# Altium schematic symbol library DSO.SchLib: 193 symbols (part 1 of 2)
Pins are listed as number, name and electrical type; pins without a type are passive.

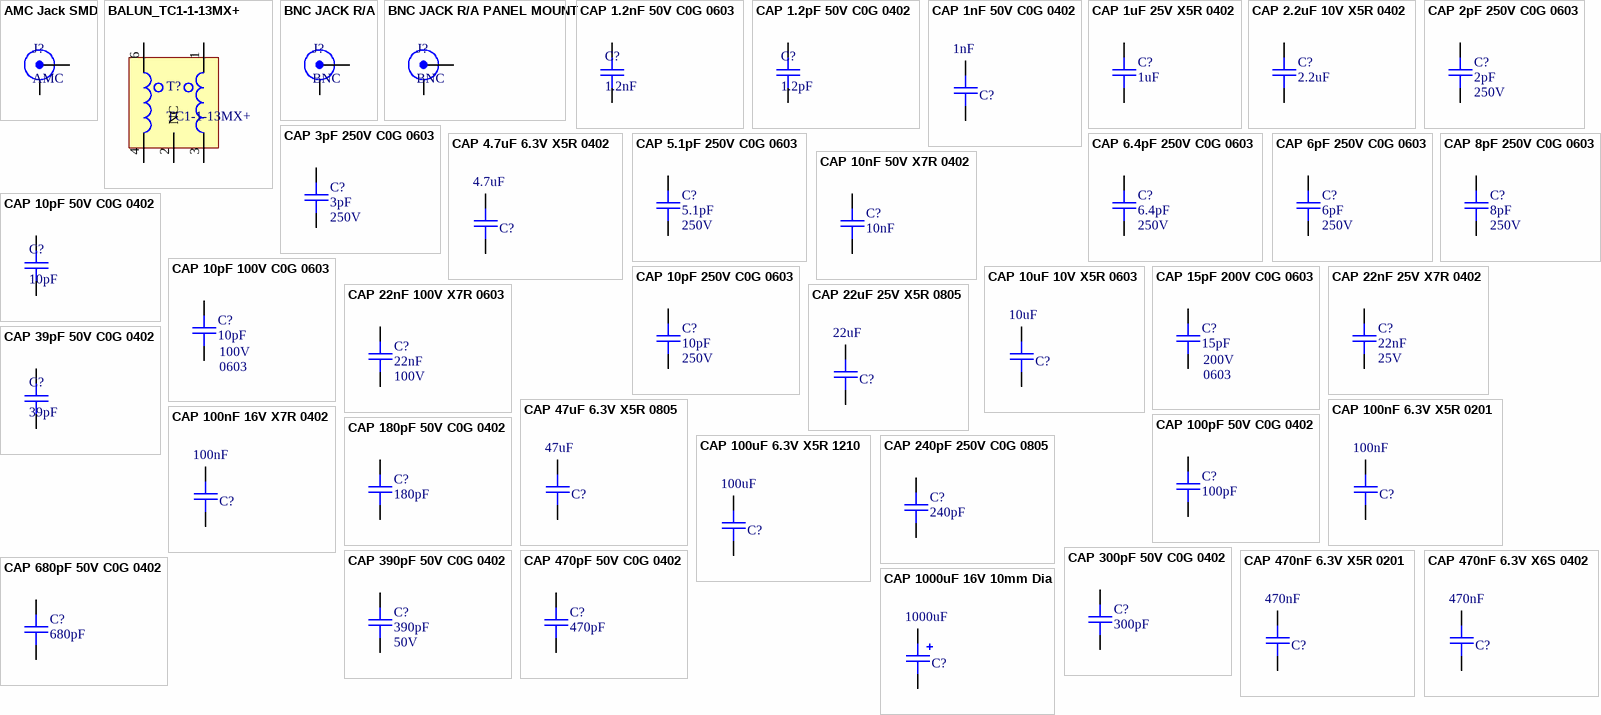
[diagram p0: symbols AMC Jack SMD to CAP 1000uF 16V 10mm Dia]

## AMC Jack SMD
designator J?, comment AMC
Supplier 1: Digi-Key; Supplier Part Number 1: ARF1579CT-ND
footprint AMP_A-1JB
pins: 1 Signal, 2 SHIELD

## BALUN_TC1-1-13MX+
designator T?, comment TC1-1-13MX+
Supplier 1: Digi-Key; Supplier Part Number 1: 3157-TC1-1-13MX+CT-ND
footprint MINICIRCUITS_TC1-1-13MX+
pins: 1, 2 NC, 3, 4, 6

## BNC JACK R/A
designator J?, comment BNC
Manufacturer: Molex; Manufacturer Part Number: 73100-0105; Supplier 1: Digi-Key; Supplier Part Number 1: WM5524-ND
footprint MOL_0731000105 (Molex BNC Jack, TH Right Angle)
pins: 1 Signal, 2 SHIELD

## BNC JACK R/A PANEL MOUNT
designator J?, comment BNC
Manufacturer: Molex; Manufacturer Part Number: 73138-5033; Supplier 1: Digi-Key; Supplier Part Number 1: WM5515-ND
footprint MOL_0731385033
pins: 1 Signal, 2 SHIELD

## CAP 1.2nF 50V C0G 0603
designator C?, comment 1.2nF
Manufacturer: Murata; Manufacturer Part Number: GRM1885C1H122JA01D; Voltage Rating: 50V; Temperature Coefficient: C0G; Package: 0603; Value: 1.2nF; Supplier 1: Digi-Key; Supplier Part Number 1: 490-1453-1-ND
footprint GEN_C_0603 (Chip Capacitor, 2-Leads, Body 1.60x0.80mm, IPC Medium Density)
pins: 1, 2

## CAP 1.2pF 50V C0G 0402
designator C?, comment 1.2pF
Manufacturer: Yageo; Manufacturer Part Number: CC0402BRNPO9BN1R2; Temperature Coefficient: C0G; Voltage Rating: 50V; Package: 0402; Value: 1.2pF; Supplier 1: Digi-Key; Supplier Part Number 1: 311-1615-1-ND
footprint GEN_C_0402 (Chip Capacitor, 0402, IPC Medium Density)
pins: 1, 2

## CAP 1nF 50V C0G 0402
designator C?, comment 1nF
Manufacturer: Murata; Manufacturer Part Number: GRM1555C1H102FA01D; Voltage Rating: 50V; Package: 0402; Supplier 1: Digi-Key; Supplier Part Number 1: 490-6189-1-ND; Value: 1nF
footprint GEN_C_0402 (Chip Capacitor, 0402, IPC Medium Density)
pins: 1, 2

## CAP 1uF 25V X5R 0402
designator C?, comment 1uF
Manufacturer: Murata; Manufacturer Part Number: GRM155R61E105KA12D; Voltage Rating: 25V; Package: 0402; Supplier 1: Digi-Key; Supplier Part Number 1: 490-10017-1-ND; Value: 1uF
footprint GEN_C_0402 (Chip Capacitor, 0402, IPC Medium Density)
pins: 1, 2

## CAP 2.2uF 10V X5R 0402
designator C?, comment 2.2uF
Manufacturer: Taiyo Yuden; Manufacturer Part Number: LMK105BJ225MV-F; Voltage Rating: 10V; Package: 0402; Supplier 1: Digi-Key; Supplier Part Number 1: 587-3153-1-ND; Value: 2.2uF
footprint GEN_C_0402 (Chip Capacitor, 0402, IPC Medium Density)
pins: 1, 2

## CAP 2pF 250V C0G 0603
designator C?, comment 2pF  Voltage Rating: 250V
Manufacturer: KEMET; Manufacturer Part Number: CBR06C309BAGAC; Package: 0603; Value: 2pF; Supplier 1: Mouser; Supplier Part Number 1: 80-CBR06C209BAG
footprint GEN_C_0603 (Chip Capacitor, 2-Leads, Body 1.60x0.80mm, IPC Medium Density)
pins: 1, 2

## CAP 3pF 250V C0G 0603
designator C?, comment 3pF  Voltage Rating: 250V
Manufacturer: KEMET; Manufacturer Part Number: CBR06C309BAGAC; Package: 0603; Supplier 1: Digi-Key; Supplier Part Number 1: 399-8820-1-ND; Value: 3pF
footprint GEN_C_0603 (Chip Capacitor, 2-Leads, Body 1.60x0.80mm, IPC Medium Density)
pins: 1, 2

## CAP 4.7uF 6.3V X5R 0402
designator C?, comment 4.7uF
Manufacturer: Murata; House Part Number: C-4.7uF-0402-002; Manufacturer Part Number: GRM155R60J475ME47D; Voltage Rating: 6.3V; Package: 0402; Value: 4.7uF; Supplier 1: Digi-Key; Supplier Part Number 1: 490-5915-1-ND
footprint GEN_C_0402 (Chip Capacitor, 0402, IPC Medium Density)
pins: 1, 2

## CAP 5.1pF 250V C0G 0603
designator C?, comment 5.1pF  Voltage Rating: 250V
Manufacturer: KEMET; Manufacturer Part Number: CBR06C519BAGAC; Package: 0603; Value: 5.1pF; Supplier 1: Mouser; Supplier Part Number 1: 80-CBR06C519BAGAC
footprint GEN_C_0603 (Chip Capacitor, 2-Leads, Body 1.60x0.80mm, IPC Medium Density)
pins: 1, 2

## CAP 6.4pF 250V C0G 0603
designator C?, comment 6.4pF  Voltage Rating: 250V
Manufacturer: KEMET; Manufacturer Part Number: CBR06C609BAGAC; Package: 0603; Value: 6.4pF; Supplier 1: Mouser; Supplier Part Number 1: 80-CBR06C649BAGAC
footprint GEN_C_0603 (Chip Capacitor, 2-Leads, Body 1.60x0.80mm, IPC Medium Density)
pins: 1, 2

## CAP 6pF 250V C0G 0603
designator C?, comment 6pF  Voltage Rating: 250V
Manufacturer: KEMET; Manufacturer Part Number: CBR06C609BAGAC; Supplier 1: Digi-Key; Supplier Part Number 1: 399-8734-1-ND; Package: 0603; Value: 6pF
footprint GEN_C_0603 (Chip Capacitor, 2-Leads, Body 1.60x0.80mm, IPC Medium Density)
pins: 1, 2

## CAP 8pF 250V C0G 0603
designator C?, comment 8pF  Voltage Rating: 250V
Manufacturer: KEMET; Manufacturer Part Number: CBR06C809BAGAC; Package: 0603; Supplier 1: Digi-Key; Supplier Part Number 1: 399-8740-1-ND; Value: 8pF
footprint GEN_C_0603 (Chip Capacitor, 2-Leads, Body 1.60x0.80mm, IPC Medium Density)
pins: 1, 2

## CAP 10nF 50V X7R 0402
designator C?, comment 10nF
Manufacturer: Murata; House Part Number: C-10nF-0402-002; Manufacturer Part Number: GRM155R71H103KA88J; Voltage Rating: 50V; Package: 0402; Value: 10nF; Supplier 1: Digi-Key; Supplier Part Number 1: 490-6351-1-ND
footprint GEN_C_0402 (Chip Capacitor, 0402, IPC Medium Density)
pins: 1, 2

## CAP 10pF 50V C0G 0402
designator C?, comment 10pF
Manufacturer: Samsung; Manufacturer Part Number: CL05C100JB5NNNC; Temperature Coefficient: C0G; Voltage Rating: 50V; Package: 0402; Value: 10pF; Supplier 1: Digi-Key; Supplier Part Number 1: 1276-1139-1-ND
footprint GEN_C_0402 (Chip Capacitor, 0402, IPC Medium Density)
pins: 1, 2

## CAP 10pF 100V C0G 0603
designator C?, comment 10pF  Package: 0603  Voltage Rating: 100V
Manufacturer: Kyocera AVX; Manufacturer Part Number: 06031A100FAT2A; Value: 10pF; Supplier 1: Digi-Key; Supplier Part Number 1: 478-5769-1-ND
footprint GEN_C_0603 (Chip Capacitor, 2-Leads, Body 1.60x0.80mm, IPC Medium Density)
pins: 1, 2

## CAP 10pF 250V C0G 0603
designator C?, comment 10pF  Voltage Rating: 250V
Manufacturer: KEMET; Manufacturer Part Number: CBR06C100FAGAC; Package: 0603; Value: 10pF; Supplier 1: Digi-Key; Supplier Part Number 1: 399-13311-1-ND
footprint GEN_C_0603 (Chip Capacitor, 2-Leads, Body 1.60x0.80mm, IPC Medium Density)
pins: 1, 2

## CAP 10uF 10V X5R 0603
designator C?, comment 10uF
Manufacturer: Murata; House Part Number: C-10uF-0603-002; Manufacturer Part Number: GRM188R61A106ME69D; Voltage Rating: 10V; Package: 0402; Value: 10uF; Supplier 1: Digi-Key; Supplier Part Number 1: 490-10475-1-ND
footprint GEN_C_0603 (Chip Capacitor, 2-Leads, Body 1.60x0.80mm, IPC Medium Density)
pins: 1, 2

## CAP 15pF 200V C0G 0603
designator C?, comment 15pF  Package: 0603  Voltage Rating: 200V
Manufacturer: Kyocera AVX; Manufacturer Part Number: 06032U150FAT2A; Supplier 1: Digi-Key; Supplier Part Number 1: 478-10254-1-ND; Value: 15pF
footprint GEN_C_0603 (Chip Capacitor, 2-Leads, Body 1.60x0.80mm, IPC Medium Density)
pins: 1, 2

## CAP 22nF 25V X7R 0402
designator C?, comment 22nF  Voltage Rating: 25V
Manufacturer: Murata; Manufacturer Part Number: GRM155R71E223JA61D; Package: 0402; Supplier 1: Digi-Key; Supplier Part Number 1: 490-10699-1-ND; Value: 22nF
footprint GEN_C_0402 (Chip Capacitor, 0402, IPC Medium Density)
pins: 1, 2

## CAP 22nF 100V X7R 0603
designator C?, comment 22nF  Voltage Rating: 100V
Manufacturer: Murata; Manufacturer Part Number: GCM188R72A223KA37D; Package: 0603; Supplier 1: Digi-Key; Supplier Part Number 1: 490-4782-1-ND; Value: 22nF
footprint GEN_C_0603 (Chip Capacitor, 2-Leads, Body 1.60x0.80mm, IPC Medium Density)
pins: 1, 2

## CAP 22uF 25V X5R 0805
designator C?, comment 22uF
Manufacturer: Murata; House Part Number: C-22uF-0805-002; Manufacturer Part Number: GRM21BR61E226ME44L; Voltage Rating: 25V; Package: 0805; Value: 22uF; Supplier 1: Digi-Key; Supplier Part Number 1: 490-10749-1-ND
footprint GEN_C_0805 (Chip Capacitor, 2-Leads, Body 2.00x1.25mm, IPC Medium Density)
pins: 1, 2

## CAP 39pF 50V C0G 0402
designator C?, comment 39pF
Manufacturer: KEMET; House Part Number: C-39pF-0402-002; Manufacturer Part Number: C0402C390J5GACTU; Temperature Coefficient: C0G; Voltage Rating: 50V; Package: 0402; Value: 39pF; Supplier 1: Digi-Key; Supplier Part Number 1: 399-C0402C390J5GAC7867CT-ND
footprint GEN_C_0402 (Chip Capacitor, 0402, IPC Medium Density)
pins: 1, 2

## CAP 47uF 6.3V X5R 0805
designator C?, comment 47uF
Manufacturer: Samsung; House Part Number: C-47uF-0805-002; Manufacturer Part Number: CL21A476MQYNNNE; Voltage Rating: 6.3V; Package: 0805; Value: 47uF; Supplier 1: Digi-Key; Supplier Part Number 1: 1276-1852-1-ND
footprint GEN_C_0805 (Chip Capacitor, 2-Leads, Body 2.00x1.25mm, IPC Medium Density)
pins: 1, 2

## CAP 100nF 6.3V X5R 0201
designator C?, comment 100nF
Manufacturer: Murata; House Part Number: C-100nF-0201-002; Manufacturer Part Number: GRM033R60J104KE19D; Voltage Rating: 6.3V; Package: 0201; Value: 100nF; Supplier 1: Digi-Key; Supplier Part Number 1: 490-3167-1-ND
footprint GEN_C_0201 (Chip Capacitor, 2-Leads, Body 0.60x0.30mm, IPC Medium Density)
pins: 1, 2

## CAP 100nF 16V X7R 0402
designator C?, comment 100nF
Manufacturer: Murata; House Part Number: C-100nF-0402-002; Manufacturer Part Number: GCM155R71C104KA55D; Voltage Rating: 16V; Package: 0402; Value: 100nF; Supplier 1: Digi-Key; Supplier Part Number 1: 490-4759-6-ND
footprint GEN_C_0402 (Chip Capacitor, 0402, IPC Medium Density)
pins: 1, 2

## CAP 100pF 50V C0G 0402
designator C?, comment 100pF
Manufacturer: Murata; Manufacturer Part Number: GCM1555C1H101FA16D; Temperature Coefficient: C0G; Voltage Rating: 50V; Package: 0402; Value: 100pF; Supplier 1: Digi-Key; Supplier Part Number 1: 490-14349-1-ND
footprint GEN_C_0402 (Chip Capacitor, 0402, IPC Medium Density)
pins: 1, 2

## CAP 100uF 6.3V X5R 1210
designator C?, comment 100uF
Manufacturer: Samsung; House Part Number: C-100uF-1210-002; Manufacturer Part Number: CL32A107MQVNNNE; Voltage Rating: 6.3V; Package: 1210; Value: 100uF; Supplier 1: Digi-Key; Supplier Part Number 1: 1276-1092-1-ND
footprint GEN_C_1210 (Chip Capacitor, 2-Leads, Body 3.20x2.50mm, IPC Medium Density)
pins: 1, 2

## CAP 180pF 50V C0G 0402
designator C?, comment 180pF
Manufacturer: Murata; Manufacturer Part Number: GCM1555C1H301FA16D; Temperature Coefficient: C0G; Voltage Rating: 50V; Package: 0402; Value: 180pF; Supplier 1: Digi-Key; Supplier Part Number 1: 490-16455-1-ND
footprint GEN_C_0402 (Chip Capacitor, 0402, IPC Medium Density)
pins: 1, 2

## CAP 240pF 250V C0G 0805
designator C?, comment 240pF
Manufacturer: Kyocera AVX; Manufacturer Part Number: 600F241FT250XT; Temperature Coefficient: C0G; Voltage Rating: 250V; Package: 0805; Value: 240pF; Supplier 1: Digi-Key; Supplier Part Number 1: 1284-1897-1-ND
footprint GEN_C_0805 (Chip Capacitor, 2-Leads, Body 2.00x1.25mm, IPC Medium Density)
pins: 1, 2

## CAP 300pF 50V C0G 0402
designator C?, comment 300pF
Manufacturer: Murata; Manufacturer Part Number: GCM1555C1H301FA16D; Temperature Coefficient: C0G; Voltage Rating: 50V; Package: 0402; Value: 300pF; Supplier 1: Digi-Key; Supplier Part Number 1: 490-GCM1555C1H301FA16DCT-ND
footprint GEN_C_0402 (Chip Capacitor, 0402, IPC Medium Density)
pins: 1, 2

## CAP 390pF 50V C0G 0402
designator C?, comment 390pF  Voltage Rating: 50V
Manufacturer: Murata; Manufacturer Part Number: GRM1555C1H391FA01D; Temperature Coefficient: C0G; Package: 0402; Supplier 1: Digi-Key; Supplier Part Number 1: 490-8202-1-ND; Value: 390pF
footprint GEN_C_0402 (Chip Capacitor, 0402, IPC Medium Density)
pins: 1, 2

## CAP 470nF 6.3V X5R 0201
designator C?, comment 470nF
Manufacturer: Murata; House Part Number: C-470nF-0201-002; Manufacturer Part Number: GRM033R60J474KE90D; Voltage Rating: 6.3V; Package: 0201; Value: 470nF; Supplier 1: Digi-Key; Supplier Part Number 1: 490-10409-1-ND
footprint GEN_C_0201 (Chip Capacitor, 2-Leads, Body 0.60x0.30mm, IPC Medium Density)
pins: 1, 2

## CAP 470nF 6.3V X6S 0402
designator C?, comment 470nF
Manufacturer: Murata; Manufacturer Part Number: GRM155C80J474KE19D; Voltage Rating: 6.3V; Package: 0402; Value: 470nF; Supplier 1: Digi-Key; Supplier Part Number 1: 490-6284-1-ND
footprint GEN_C_0402 (Chip Capacitor, 0402, IPC Medium Density)
pins: 1, 2

## CAP 470pF 50V C0G 0402
designator C?, comment 470pF
Manufacturer: Murata; Manufacturer Part Number: GRM1555C1H471FA01D; Temperature Coefficient: C0G; Voltage Rating: 50V; Package: 0402; Value: 470pF; Supplier 1: Digi-Key; Supplier Part Number 1: 490-8207-1-ND
footprint GEN_C_0402 (Chip Capacitor, 0402, IPC Medium Density)
pins: 1, 2

## CAP 680pF 50V C0G 0402
designator C?, comment 680pF
Manufacturer: Murata; Manufacturer Part Number: GCM1555C1H681FA16D; Temperature Coefficient: C0G; Voltage Rating: 50V; Package: 0402; Value: 680pF; Supplier 1: Digi-Key; Supplier Part Number 1: 490-16439-1-ND
footprint GEN_C_0402 (Chip Capacitor, 0402, IPC Medium Density)
pins: 1, 2

## CAP 1000uF 16V 10mm Dia
designator C?, comment 1000uF
Manufacturer: Panasonic; Manufacturer Part Number: 16SVPF1000MX; Voltage Rating: 16V; Package: 10mm; Value: 1000uF; Supplier 1: Digi-Key; Supplier Part Number 1: P124991CT-ND
footprint GEN_C_POLAR_10mm
pins: 1, 2

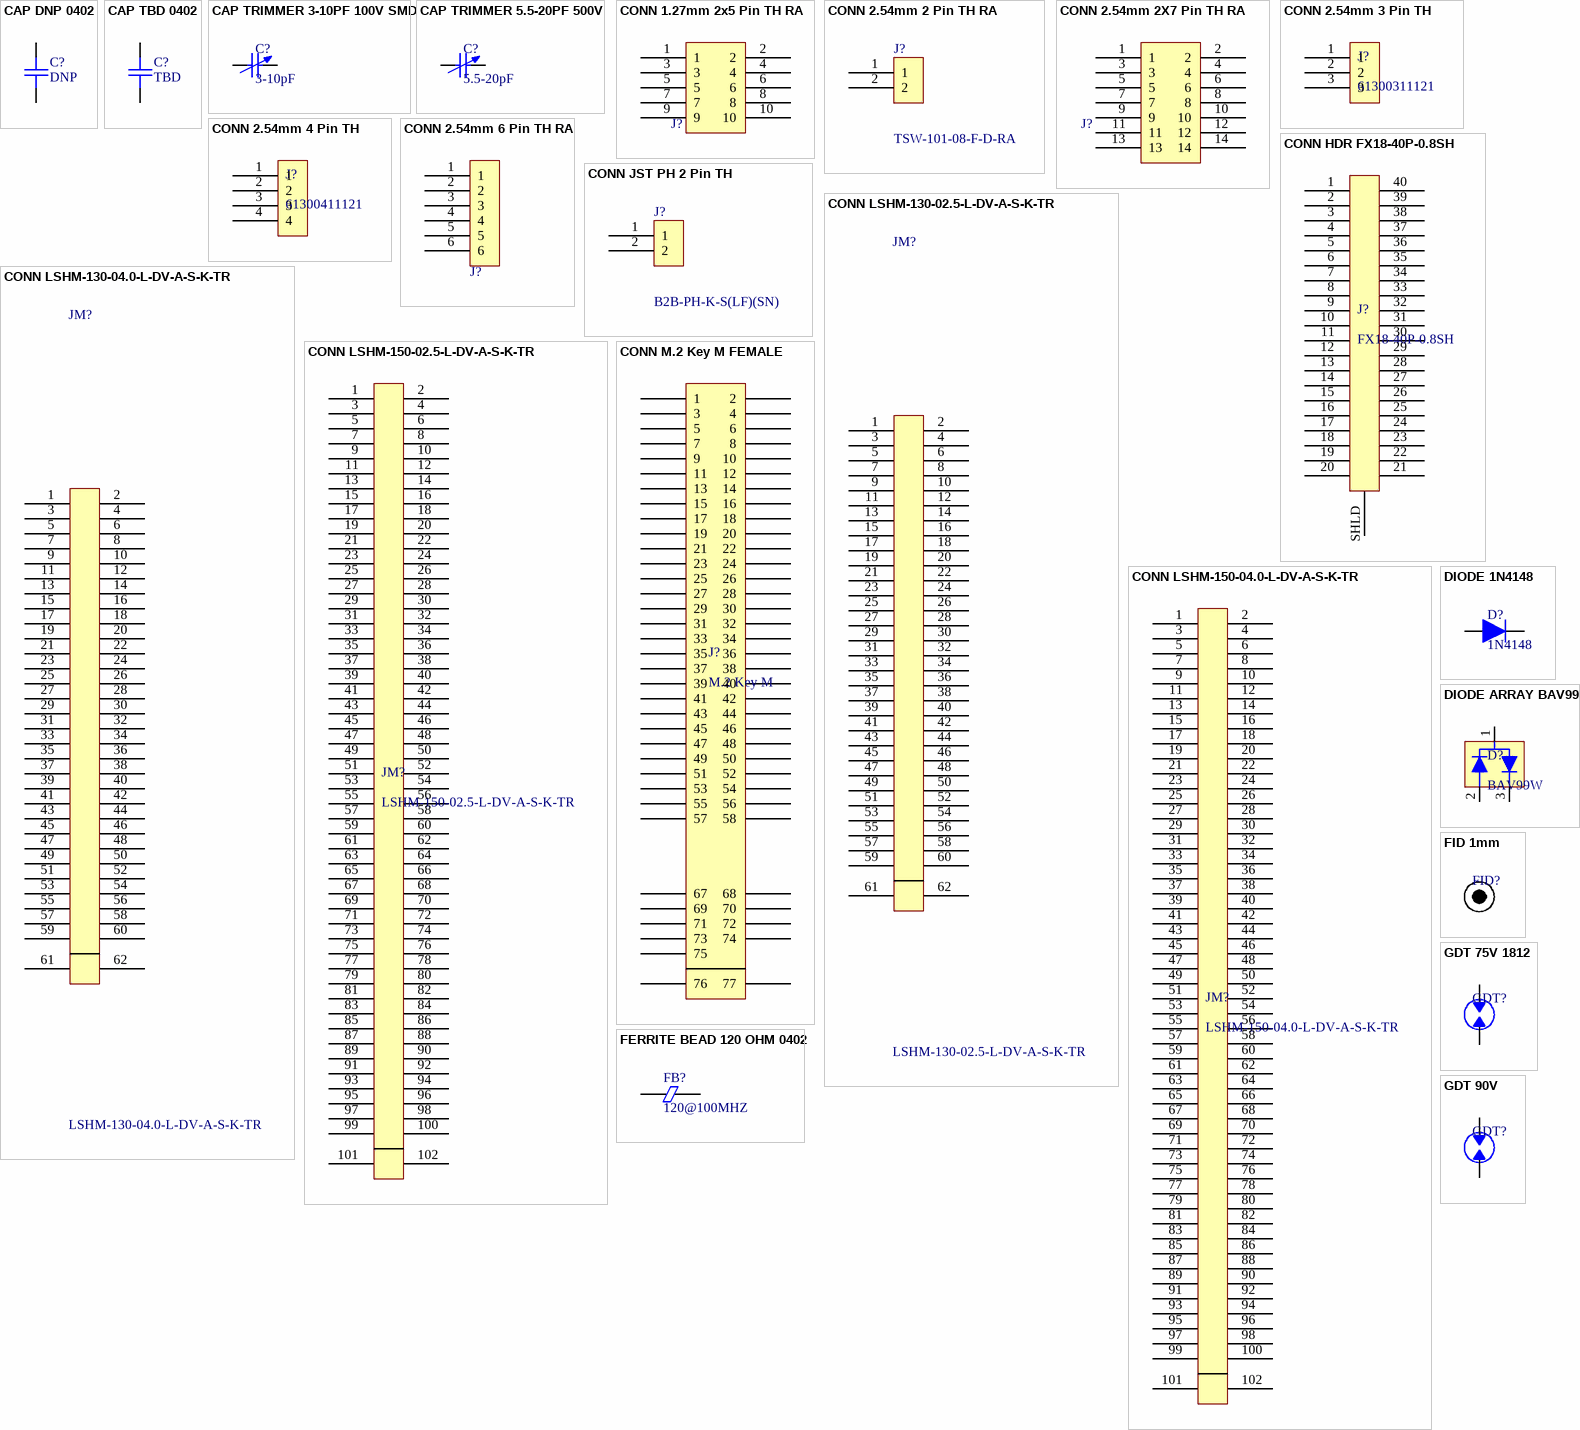
[diagram p1: symbols CAP DNP 0402 to GDT 90V]

## CAP DNP 0402
designator C?, comment DNP
Package: 0402; Value: DNP
footprint GEN_C_0402 (Chip Capacitor, 0402, IPC Medium Density)
pins: 1, 2

## CAP TBD 0402
designator C?, comment TBD
Package: 0402; Value: TBD
footprint GEN_C_0402 (Chip Capacitor, 0402, IPC Medium Density)
pins: 1, 2

## CAP TRIMMER 3-10PF 100V SMD
designator C?, comment 3-10pF
Manufacturer: Panasonic; Manufacturer Part Number: SGC3S100; Value: 3-10pF; Supplier 1: Digi-Key; Supplier Part Number 1: 2447-SGC3S100CT-ND
footprint EW_TRIMCAP
pins: 1, 2

## CAP TRIMMER 5.5-20PF 500V
designator C?, comment 5.5-20pF
Manufacturer: Panasonic; Manufacturer Part Number: SGC3S200NM; Value: 5.5-20pF; Supplier 1: Digikey; Supplier Part Number 1: 2447-SGC3S200NMCT-ND
footprint EW_TRIMCAP
pins: 1, 2

## CONN 1.27mm 2x5 Pin TH RA
designator J?, comment 1.27mm 6 Pin TH  (value not drawn)
Manufacturer: CNC Tech; Manufacturer Part Number: 3220-10-0200-00; Supplier 1: Digi-Key; Supplier Part Number 1: 1175-1628-ND
footprint GEN_1.27mm_2x5_Pin_TH_RA
pins: 1, 2, 3, 4, 5, 6, 7, 8, 9, 10

## CONN 2.54mm 2 Pin TH RA
designator J?, comment TSW-101-08-F-D-RA
Manufacturer: Samtec; Supplier 1: Digi-Key; Supplier Part Number 1: SAM12296-ND; Manufacturer Part Number: TSW-101-08-F-D-RA
footprint GEN_2.54mm_1x2_Pin_TH_RA
pins: 1, 2

## CONN 2.54mm 2X7 Pin TH RA
designator J?, comment 2.54mm 2X7 Pin TH  (value not drawn)
Supplier 1: Digi-Key; Supplier Part Number 1: S9203-ND
footprint GEN_2.54mm_2X7_Pin_TH_RA
pins: 1, 2, 3, 4, 5, 6, 7, 8, 9, 10, 11, 12, 13, 14

## CONN 2.54mm 3 Pin TH
designator J?, comment 61300311121
Manufacturer: Wurth Electronics; Manufacturer Part Number: 61300311121; Supplier 1: Digi-Key; Supplier Part Number 1: 732-5316-ND
footprint GEN_2.54mm_3_Pin_TH
pins: 1, 2, 3

## CONN 2.54mm 4 Pin TH
designator J?, comment 61300411121
Manufacturer: Wurth Electronics; Supplier 1: Digi-Key; Supplier Part Number 1: 732-5317-ND; Manufacturer Part Number: 61300411121
footprint GEN_2.54mm_4_Pin_TH
pins: 1, 2, 3, 4

## CONN 2.54mm 6 Pin TH RA
designator J?, comment 2.54mm 6 Pin TH  (value not drawn)
Manufacturer: Wurth Electronics; Manufacturer Part Number: 61300611021; Supplier 1: Digi-Key; Supplier Part Number 1: 732-5339-ND
footprint GEN_2.54mm_6_Pin_TH_RA
pins: 1, 2, 3, 4, 5, 6

## CONN HDR FX18-40P-0.8SH
designator J?, comment FX18-40P-0.8SH
Manufacturer: Hirose; Supplier 1: Digi-Key; Supplier Part Number 1: H11868-ND; Manufacturer Part Number: FX18-40P-0.8SH
footprint HIR_FX18-40P-0.8SH
pins: 1, 2, 3, 4, 5, 6, 7, 8, 9, 10, 11, 12, 13, 14, 15, 16, 17, 18, 19, 20, 21, 22, 23, 24, 25, 26, 27, 28, 29, 30, 31, 32, 33, 34, 35, 36, 37, 38, 39, 40, SHLD

## CONN JST PH 2 Pin TH
designator J?, comment B2B-PH-K-S(LF)(SN)
Manufacturer: JST; Manufacturer Part Number: B2B-PH-K-S-LF-SN; Supplier 1: Digi-Key; Supplier Part Number 1: 455-1704-ND
footprint JST_B2B-PH-K-S(LF)(SN)
pins: 1, 2

## CONN LSHM-130-02.5-L-DV-A-S-K-TR
designator JM?, comment LSHM-130-02.5-L-DV-A-S-K-TR
Manufacturer: Samtec; House Part Number: LSHM-130-02.5-L-DV-A-S-K-TR; Manufacturer Part Number: LSHM-130-02.5-L-DV-A-S-K-TR; Supplier 1: Digi-Key; Supplier Part Number 1: SAM14106DKR-ND
footprint SAM_LSHM-130-XX.X-XX-DV-A-S
pins: 1, 2, 3, 4, 5, 6, 7, 8, 9, 10, 11, 12, 13, 14, 15, 16, 17, 18, 19, 20, 21, 22, 23, 24, 25, 26, 27, 28, 29, 30, 31, 32, 33, 34, 35, 36, 37, 38, 39, 40, 41, 42, 43, 44, 45, 46, 47, 48, 49, 50, 51, 52, 53, 54, 55, 56, 57, 58, 59, 60, 61, 62

## CONN LSHM-130-04.0-L-DV-A-S-K-TR
designator JM?, comment LSHM-130-04.0-L-DV-A-S-K-TR
Manufacturer: Samtec; Supplier 1: Digi-Key; Supplier Part Number 1: SAM9034CT-ND; House Part Number: LSHM-130-04.0-L-DV-A-S-K-TR; Manufacturer Part Number: LSHM-130-04.0-L-DV-A-S-K-TR
footprint SAM_LSHM-130-XX.X-XX-DV-A-S
pins: 1, 2, 3, 4, 5, 6, 7, 8, 9, 10, 11, 12, 13, 14, 15, 16, 17, 18, 19, 20, 21, 22, 23, 24, 25, 26, 27, 28, 29, 30, 31, 32, 33, 34, 35, 36, 37, 38, 39, 40, 41, 42, 43, 44, 45, 46, 47, 48, 49, 50, 51, 52, 53, 54, 55, 56, 57, 58, 59, 60, 61, 62

## CONN LSHM-150-02.5-L-DV-A-S-K-TR
designator JM?, comment LSHM-150-02.5-L-DV-A-S-K-TR
Manufacturer: Samtec; House Part Number: LSHM-150-02.5-L-DV-A-S-K-TR; Manufacturer Part Number: LSHM-150-02.5-L-DV-A-S-K-TR; Supplier 1: Digi-Key; Supplier Part Number 1: SAM14147DKR-ND
footprint SAM_LSHM-150-XX.X-XX-DV-A-S
pins: 1, 2, 3, 4, 5, 6, 7, 8, 9, 10, 11, 12, 13, 14, 15, 16, 17, 18, 19, 20, 21, 22, 23, 24, 25, 26, 27, 28, 29, 30, 31, 32, 33, 34, 35, 36, 37, 38, 39, 40, 41, 42, 43, 44, 45, 46, 47, 48, 49, 50, 51, 52, 53, 54, 55, 56, 57, 58, 59, 60, 61, 62, 63, 64, 65, 66, 67, 68, 69, 70, 71, 72, 73, 74, 75, 76, 77, 78, 79, 80, 81, 82, 83, 84, 85, 86, 87, 88, 89, 90, 91, 92, 93, 94, 95, 96, 97, 98, 99, 100, 101, 102

## CONN LSHM-150-04.0-L-DV-A-S-K-TR
designator JM?, comment LSHM-150-04.0-L-DV-A-S-K-TR
Manufacturer: Samtec; Supplier 1: Digi-Key; Supplier Part Number 1: SAM9033CT-ND; House Part Number: LSHM-150-04.0-L-DV-A-S-K-TR; Manufacturer Part Number: LSHM-150-04.0-L-DV-A-S-K-TR
footprint SAM_LSHM-150-XX.X-XX-DV-A-S
pins: 1, 2, 3, 4, 5, 6, 7, 8, 9, 10, 11, 12, 13, 14, 15, 16, 17, 18, 19, 20, 21, 22, 23, 24, 25, 26, 27, 28, 29, 30, 31, 32, 33, 34, 35, 36, 37, 38, 39, 40, 41, 42, 43, 44, 45, 46, 47, 48, 49, 50, 51, 52, 53, 54, 55, 56, 57, 58, 59, 60, 61, 62, 63, 64, 65, 66, 67, 68, 69, 70, 71, 72, 73, 74, 75, 76, 77, 78, 79, 80, 81, 82, 83, 84, 85, 86, 87, 88, 89, 90, 91, 92, 93, 94, 95, 96, 97, 98, 99, 100, 101, 102

## CONN M.2 Key M FEMALE
designator J?, comment M.2 Key M
Manufacturer: TE Connectivity; Manufacturer Part Number: 1-2199230-5; Supplier 1: Digi-Key; Supplier Part Number 1: A124992CT-ND
footprint TE_M2_KEYM_2199230
pins: 1, 2, 3, 4, 5, 6, 7, 8, 9, 10, 11, 12, 13, 14, 15, 16, 17, 18, 19, 20, 21, 22, 23, 24, 25, 26, 27, 28, 29, 30, 31, 32, 33, 34, 35, 36, 37, 38, 39, 40, 41, 42, 43, 44, 45, 46, 47, 48, 49, 50, 51, 52, 53, 54, 55, 56, 57, 58, 67, 68, 69, 70, 71, 72, 73, 74, 75, 76, 77

## DIODE 1N4148
designator D?, comment 1N4148
Manufacturer: Diodes; Manufacturer Part Number: 1N4148WS-7-F; Supplier 1: Digi-Key; Supplier Part Number 1: 1N4148WS-FDICT-ND
footprint GEN_SOD_323
pins: 1 K, 2 A

## DIODE ARRAY BAV99W
designator D?, comment BAV99W
Supplier 1: Digi-Key; Supplier Part Number 1: BAV99W-FDICT-ND
footprint GEN_SOT_323
pins: 1  , 2, 3

## FERRITE BEAD 120 OHM 0402
designator FB?, comment 120@100MHZ
Manufacturer: Murata; House Part Number: BLM15PX121SN1D; Supplier 1: Digi-Key; Supplier Part Number 1: 490-9656-1-ND; Manufacturer Part Number: BLM15PX121SN1D
footprint GEN_R_0402 (Chip Resistor, 2-Leads, Body 1.00x0.50mm, IPC Medium Density)
pins: 1, 2

## FID 1mm
designator FID?, comment PCB  (value not drawn)  (no BOM)
House Part Number: Fiducial-1
footprint GEN_FID

## GDT 75V 1812
designator GDT?, comment 4532-075-LF  (value not drawn)
Manufacturer: Yageo; Supplier 1: Digi-Key; Supplier Part Number 1: YAG6774CT-ND; Manufacturer Part Number: 4532-075-LF
footprint BOU_2051
pins: 1, 2

## GDT 90V
designator GDT?, comment GDT  (value not drawn)
Manufacturer: Bourns; Manufacturer Part Number: 2051-09-SM-RPLF; Supplier 1: Digi-Key; Supplier Part Number 1: 2051-09-SM-RPLFCT-ND
footprint BOU_2051
pins: 1, 2

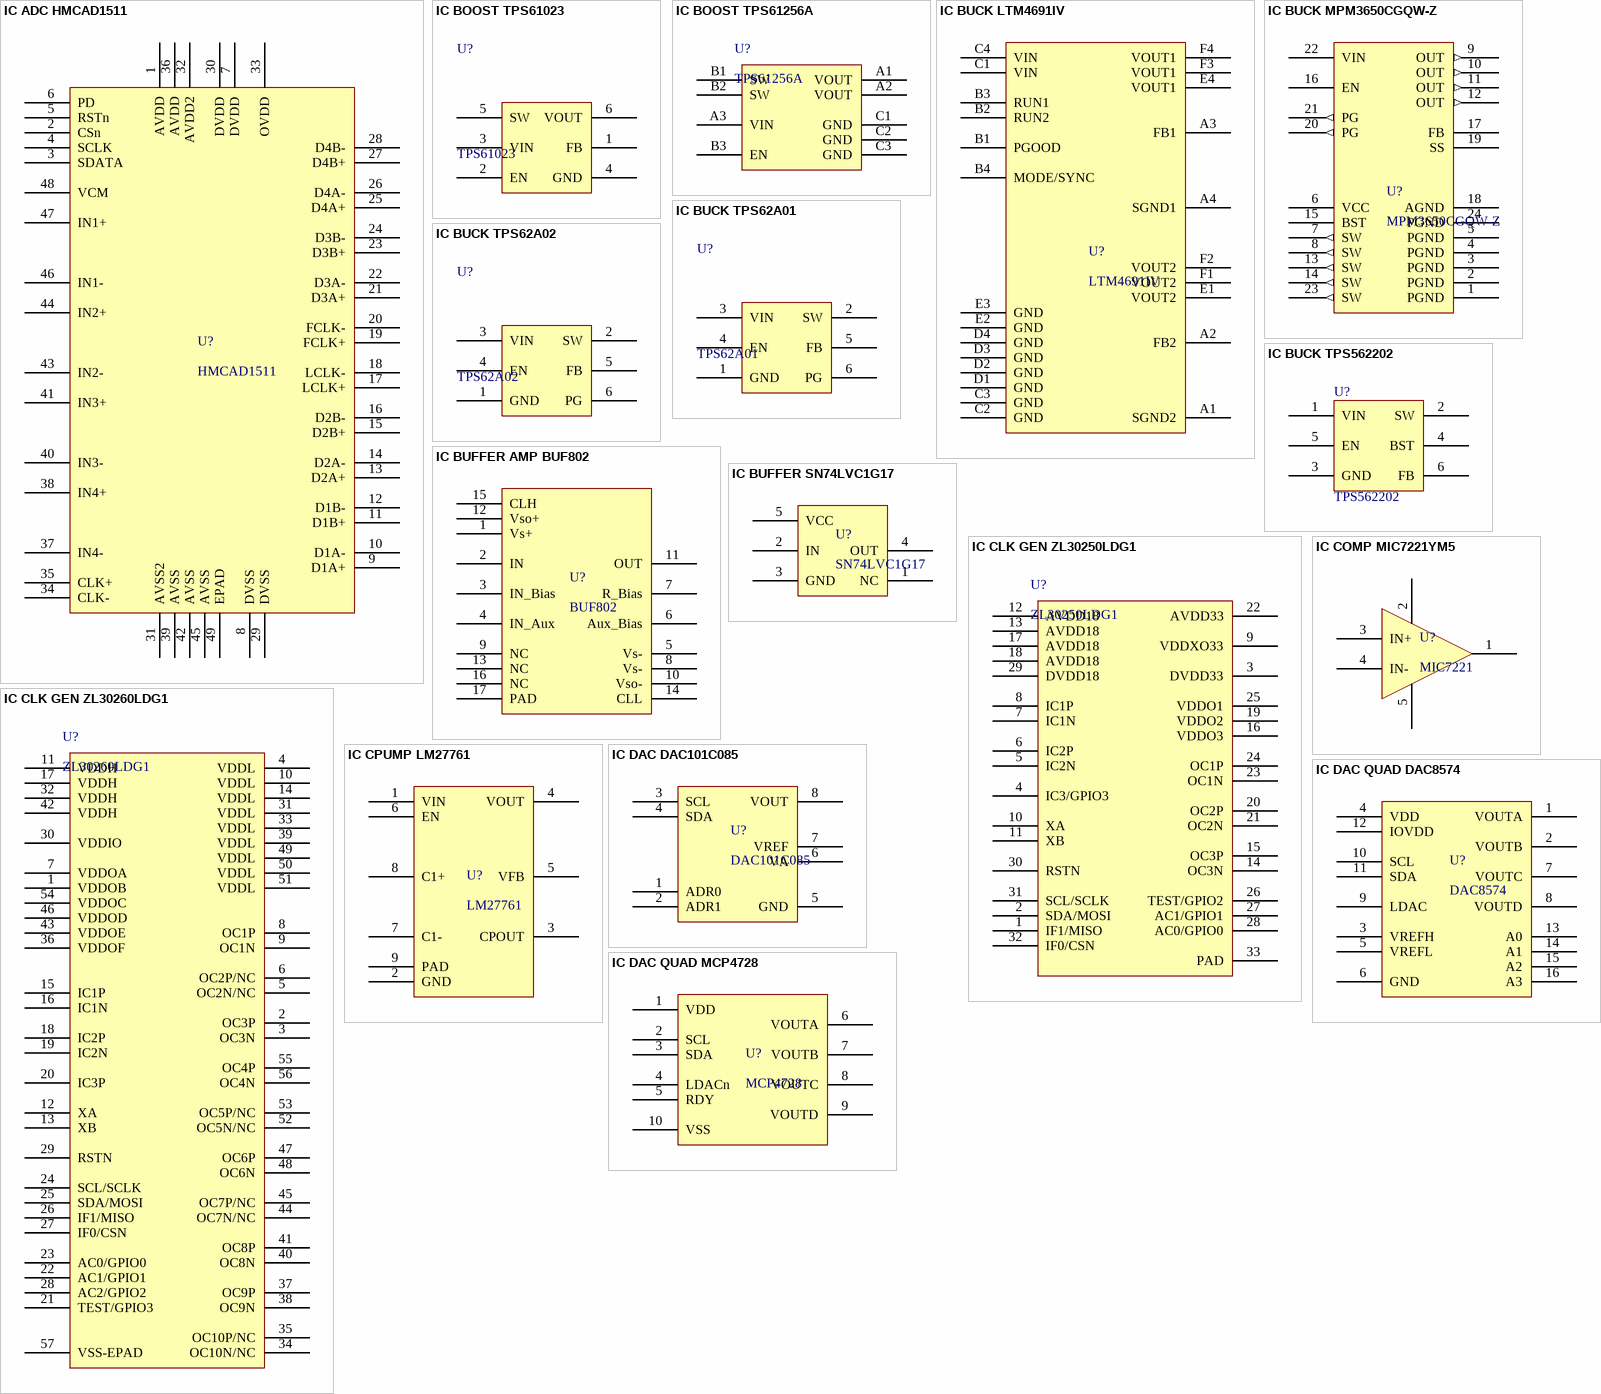
[diagram p2: symbols IC ADC HMCAD1511 to IC DAC QUAD MCP4728]

## IC ADC HMCAD1511
designator U?, comment HMCAD1511
Manufacturer: Analog Devices; Supplier 1: Digi-Key; Supplier Part Number 1: 1127-1648-ND; Manufacturer Part Number: HMCAD1511
footprint AD_QFN48_LP7 (QFN, 48-Leads, Body 7.00x7.00mm, Pitch 0.50mm, Thermal Pad 5.28x5.28mm, IPC Medium Density)
pins: 1 AVDD, 2 CSn, 3 SDATA, 4 SCLK, 5 RSTn, 6 PD, 7 DVDD, 8 DVSS, 9 D1A+, 10 D1A-, 11 D1B+, 12 D1B-, 13 D2A+, 14 D2A-, 15 D2B+, 16 D2B-, 17 LCLK+, 18 LCLK-, 19 FCLK+, 20 FCLK-, 21 D3A+, 22 D3A-, 23 D3B+, 24 D3B-, 25 D4A+, 26 D4A-, 27 D4B+, 28 D4B-, 29 DVSS, 30 DVDD, 31 AVSS2, 32 AVDD2, 33 OVDD, 34 CLK-, 35 CLK+, 36 AVDD, 37 IN4-, 38 IN4+, 39 AVSS, 40 IN3-, 41 IN3+, 42 AVSS, 43 IN2-, 44 IN2+, 45 AVSS, 46 IN1-, 47 IN1+, 48 VCM, 49 EPAD

## IC BOOST TPS61023
designator U?, comment TPS61023
Manufacturer: Texas Instruments; Manufacturer Part Number: TPS61023DRLT; Supplier 1: Digi-Key; Supplier Part Number 1: 296-TPS61023DRLTCT-ND
footprint TI_SOT563_DRL0006A (SOTFL, 6-Leads, Body 1.60x1.60mm, Pitch 0.50mm, IPC Medium Density)
pins: 1 FB, 2 EN, 3 VIN (power), 4 GND (power), 5 SW, 6 VOUT

## IC BOOST TPS61256A
designator U?, comment TPS61256A
Manufacturer: Texas Instruments; Manufacturer Part Number: TPS61256AYFFT; Supplier 1: Digi-Key; Supplier Part Number 1: 296-48833-1-ND
footprint TI_DSBGA_YFF0009 (BGA, 9-Leads, Body 1.21x1.31mmx0.63mm, Pitch 0.40mm)
pins: A1 VOUT, A2 VOUT, A3 VIN, B1 SW, B2 SW, B3 EN, C1 GND, C2 GND, C3 GND

## IC BUCK LTM4691IV
designator U?, comment LTM4691IV
Manufacturer: Analog Devices; Manufacturer Part Number: LTM4691IV#PBF; Supplier 1: Digi-Key; Supplier Part Number 1: 505-LTM4691IV#PBF-ND
footprint AD_LGA24
pins: A1 SGND2, A2 FB2, A3 FB1, A4 SGND1, B1 PGOOD, B2 RUN2, B3 RUN1, B4 MODE/SYNC, C1 VIN, C2 GND, C3 GND, C4 VIN, D1 GND, D2 GND, D3 GND, D4 GND, E1 VOUT2, E2 GND, E3 GND, E4 VOUT1, F1 VOUT2, F2 VOUT2, F3 VOUT1, F4 VOUT1

## IC BUCK MPM3650CGQW-Z
designator U?, comment MPM3650CGQW-Z
Manufacturer: Monolithic Power Systems; Supplier 1: Digi-Key; Supplier Part Number 1: 1589-MPM3650CGQW-ZCT-ND; Manufacturer Part Number: MPM3650CGQW-Z
footprint MPS_MPM3650
pins: 1 PGND, 2 PGND, 3 PGND, 4 PGND, 5 PGND, 6 VCC (power), 7 SW (out), 8 SW (out), 9 OUT (out), 10 OUT (out), 11 OUT (out), 12 OUT (out), 13 SW (out), 14 SW (out), 15 BST, 16 EN, 17 FB, 18 AGND, 19 SS, 20 PG (out), 21 PG (out), 22 VIN (power), 23 SW (out), 24 PGND

## IC BUCK TPS62A01
designator U?, comment TPS62A01
Manufacturer: Texas Instruments; House Part Number: TPS62A01DRLR; Supplier 1: Mouser; Supplier Part Number 1: 595-TPS62A01DRLR; Manufacturer Part Number: TPS62A01DRLR
footprint TI_SOT563_DRL0006A (SOTFL, 6-Leads, Body 1.60x1.60mm, Pitch 0.50mm, IPC Medium Density)
pins: 1 GND (power), 2 SW, 3 VIN (power), 4 EN, 5 FB, 6 PG

## IC BUCK TPS62A02
designator U?, comment TPS62A02
Manufacturer: Texas Instruments; House Part Number: TPS62A02DRLR; Supplier 1: Mouser; Supplier Part Number 1: 595-TPS62A02DRLR; Manufacturer Part Number: TPS62A02DRLR
footprint TI_SOT563_DRL0006A (SOTFL, 6-Leads, Body 1.60x1.60mm, Pitch 0.50mm, IPC Medium Density)
pins: 1 GND (power), 2 SW, 3 VIN (power), 4 EN, 5 FB, 6 PG

## IC BUCK TPS562202
designator U?, comment TPS562202
Supplier 1: Digi-Key; Supplier Part Number 1: 296-TPS562202DRLRCT-ND
footprint TI_SOT563_DRL0006A (SOTFL, 6-Leads, Body 1.60x1.60mm, Pitch 0.50mm, IPC Medium Density)
pins: 1 VIN (power), 2 SW, 3 GND (power), 4 BST, 5 EN, 6 FB

## IC BUFFER AMP BUF802
designator U?, comment BUF802
Manufacturer: Texas Instruments; Manufacturer Part Number: BUF802IRGTR; Supplier 1: Texas Instruments; Supplier Part Number 1: BUF802IRGTR
footprint TI_VQFN_RGT0016C (QFN, 16-Leads, Body 3.00x3.00mm, Pitch 0.50mm, Thermal Pad 1.68x1.68mm, IPC Medium Density)
pins: 1 Vs+, 2 IN, 3 IN_Bias, 4 IN_Aux, 5 Vs-, 6 Aux_Bias, 7 R_Bias, 8 Vs-, 9 NC, 10 Vso-, 11 OUT, 12 Vso+, 13 NC, 14 CLL, 15 CLH, 16 NC, 17 PAD

## IC BUFFER SN74LVC1G17
designator U?, comment SN74LVC1G17
Manufacturer: Texas Instruments; Manufacturer Part Number: SN74LVC1G17DBVR; Supplier 1: Texas Instruments; Supplier Part Number 1: SN74LVC1G17DBVR
footprint GEN_SC-70-5 (SOT23, 5-Leads, Body 2.00x2.10mm, Pitch 0.65mm, IPC Medium Density)
pins: 1 NC, 2 IN, 3 GND, 4 OUT, 5 VCC

## IC CLK GEN ZL30250LDG1
designator U?, comment ZL30250LDG1
Manufacturer: Microchip; Supplier 1: Mouser; Supplier Part Number 1: 494-ZL30250LDG1; Manufacturer Part Number: ZL30250LDG1
footprint MC_QFN32_ZL30250 (QFN, 32-Leads, Body 5.00x5.00mm, Pitch 0.50mm, Thermal Pad 3.50x3.50mm, IPC Medium Density)
pins: 1 IF1/MISO, 2 SDA/MOSI, 3 DVDD33, 4 IC3/GPIO3, 5 IC2N, 6 IC2P, 7 IC1N, 8 IC1P, 9 VDDXO33, 10 XA, 11 XB, 12 AVDD18, 13 AVDD18, 14 OC3N, 15 OC3P, 16 VDDO3, 17 AVDD18, 18 AVDD18, 19 VDDO2, 20 OC2P, 21 OC2N, 22 AVDD33, 23 OC1N, 24 OC1P, 25 VDDO1, 26 TEST/GPIO2, 27 AC1/GPIO1, 28 AC0/GPIO0, 29 DVDD18, 30 RSTN, 31 SCL/SCLK, 32 IF0/CSN, 33 PAD

## IC CLK GEN ZL30260LDG1
designator U?, comment ZL30260LDG1
Manufacturer: Microchip; Manufacturer Part Number: ZL30260LDG1; Supplier 1: Mouser; Supplier Part Number 1: 494-ZL30260LDG1
footprint MC_QFN56_ZL30260 (QFN, 56-Leads, Body 8.00x8.00mm, Pitch 0.50mm, Thermal Pad 6.40x6.40mm, IPC Medium Density)
pins: 1 VDDOB, 2 OC3P, 3 OC3N, 4 VDDL, 5 OC2N/NC, 6 OC2P/NC, 7 VDDOA, 8 OC1P, 9 OC1N, 10 VDDL, 11 VDDH, 12 XA, 13 XB, 14 VDDL, 15 IC1P, 16 IC1N, 17 VDDH, 18 IC2P, 19 IC2N, 20 IC3P, 21 TEST/GPIO3, 22 AC1/GPIO1, 23 AC0/GPIO0, 24 SCL/SCLK, 25 SDA/MOSI, 26 IF1/MISO, 27 IF0/CSN, 28 AC2/GPIO2, 29 RSTN, 30 VDDIO, 31 VDDL, 32 VDDH, 33 VDDL, 34 OC10N/NC, 35 OC10P/NC, 36 VDDOF, 37 OC9P, 38 OC9N, 39 VDDL, 40 OC8N, 41 OC8P, 42 VDDH, 43 VDDOE, 44 OC7N/NC, 45 OC7P/NC, 46 VDDOD, 47 OC6P, 48 OC6N, 49 VDDL, 50 VDDL, 51 VDDL, 52 OC5N/NC, 53 OC5P/NC, 54 VDDOC, 55 OC4P, 56 OC4N, 57 VSS-EPAD

## IC COMP MIC7221YM5
designator U?, comment MIC7221
Manufacturer: Microchip; Manufacturer Part Number: MIC7221YM5-TR; Supplier 1: Digi-Key; Supplier Part Number 1: 576-2901-1-ND
footprint GEN_SOT23_5_950_2900X1600X1450 (SOT23, 5-Leads, Body 2.90x2.80mm, Pitch 0.95mm, IPC Medium Density)
pins: 1 OUT (oc), 2 V+, 3 IN+, 4 IN-, 5 V-

## IC CPUMP LM27761
designator U?, comment LM27761
Manufacturer: Texas Instruments; Manufacturer Part Number: LM27761DSGR; Supplier 1: Digi-Key; Supplier Part Number 1: 296-44379-1-ND
footprint TI_WSON8_DSG0008A (SON, 8-Leads, Body 2.00x2.00mm, Pitch 0.50mm, Thermal Pad 1.60x0.69mm, IPC Medium Density)
pins: 1 VIN (power), 2 GND (power), 3 CPOUT, 4 VOUT (power), 5 VFB, 6 EN, 7 C1-, 8 C1+, 9 PAD (power)

## IC DAC DAC101C085
designator U?, comment DAC101C085
Manufacturer: Texas Instruments; Manufacturer Part Number: DAC101C085CIMM/NOPB; Supplier 1: Digi-Key; Supplier Part Number 1: DAC101C085CIMM/NOPBCT-ND
footprint TI_VSSOP8_DGK (TSOP, 8-Leads, Body 3.00x3.00mm, Pitch 0.65mm, IPC Medium Density)
pins: 1 ADR0, 2 ADR1, 3 SCL, 4 SDA, 5 GND (power), 6 VA (power), 7 VREF (power), 8 VOUT

## IC DAC QUAD DAC8574
designator U?, comment DAC8574
Manufacturer: Texas Instruments; Manufacturer Part Number: DAC8574IPWR; Supplier 1: Texas Instruments; Supplier Part Number 1: DAC8574IPWR
footprint TI_TSSOP16_PW0016A (TSOP, 16-Leads, Body 5.00x4.40mm, Pitch 0.65mm, IPC Medium Density)
pins: 1 VOUTA, 2 VOUTB, 3 VREFH, 4 VDD (power), 5 VREFL, 6 GND (power), 7 VOUTC, 8 VOUTD, 9 LDAC, 10 SCL, 11 SDA, 12 IOVDD (power), 13 A0, 14 A1, 15 A2, 16 A3

## IC DAC QUAD MCP4728
designator U?, comment MCP4728
Manufacturer: Microchip; Supplier 1: Digi-Key; Supplier Part Number 1: MCP4728A1T-E/UNCT-ND; Manufacturer Part Number: MCP4728
footprint MC_MSOP10_UN (TSSOP, 10-Leads, Body 3.00x3.00mm, Pitch 0.50mm, IPC Medium Density)
pins: 1 VDD (power), 2 SCL, 3 SDA, 4 LDACn, 5 RDY, 6 VOUTA, 7 VOUTB, 8 VOUTC, 9 VOUTD, 10 VSS (power)

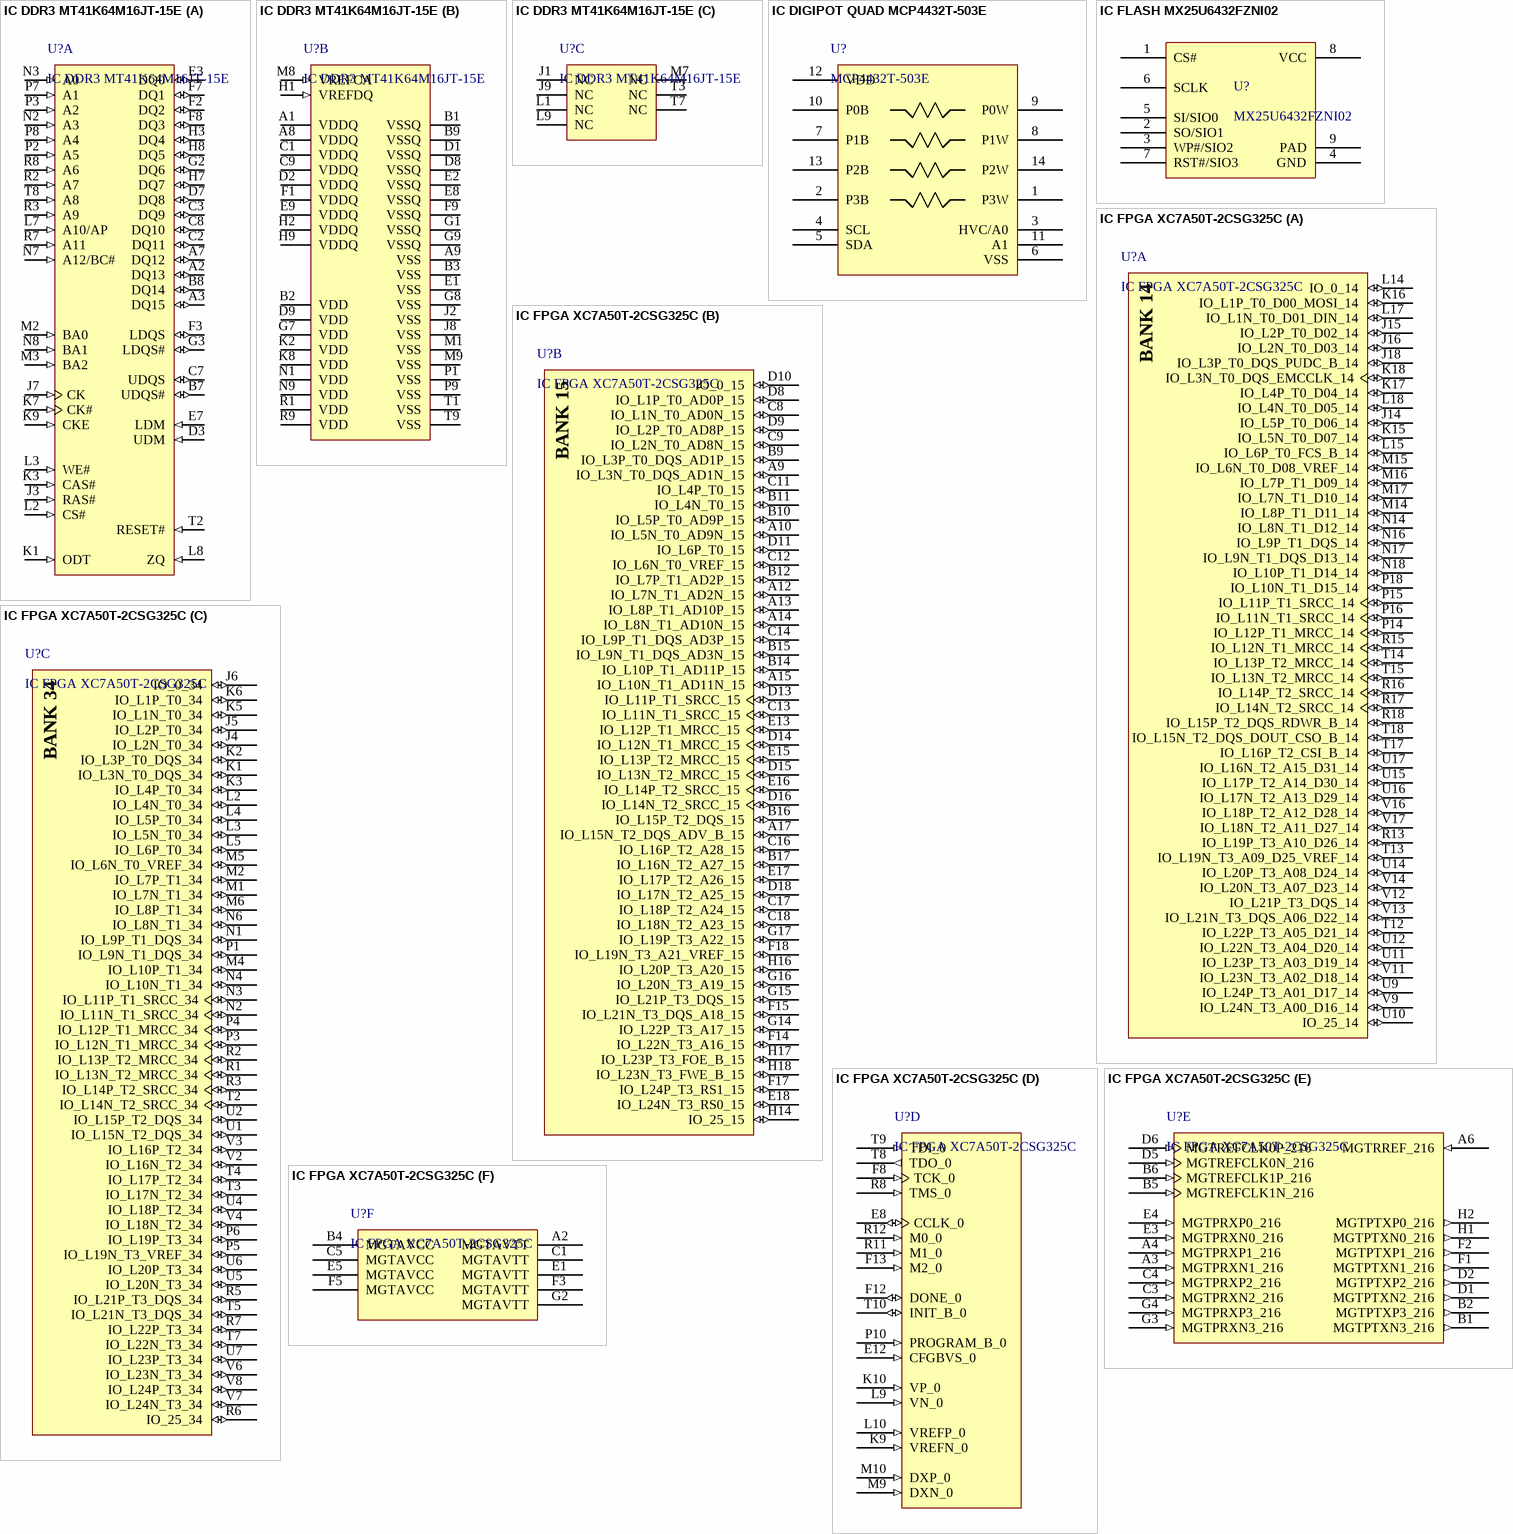
[diagram p3: symbols IC DDR3 MT41K64M16JT-15E to IC FPGA XC7A50T-2CSG325C]

## IC DDR3 MT41K64M16JT-15E
designator U?
1Gb DDR3-1333 SDRAM, 64Mb x 16, 1.5ns, 1.35V, 0 to 95 degC, 96-Ball FBGA, Pb-Free; Manufacturer: Micron; House Part Number: MT41K64M16TW-107:J; Package: 96-FBGA; Supplier 1: Digi-Key; Supplier Part Number 1: 557-2010-1-ND; Manufacturer Part Number: MT41K64M16TW-107:J
footprint MICT-JT-96 (BGA, 96-Balls, Body 14x8mm, Pitch 0.8mm)
part A pins: A2 DQ13 (io) "Data input/output: Upper byte of bidirectional data bus for the x16 configuration. DQ[15:8] are referenced to VREFDQ.", A3 DQ15 (io) "Data input/output: Upper byte of bidirectional data bus for the x16 configuration. DQ[15:8] are referenced to VREFDQ.", A7 DQ12 (io) "Data input/output: Upper byte of bidirectional data bus for the x16 configuration. DQ[15:8] are referenced to VREFDQ.", B7 UDQS# (io) "Upper byte data strobe: Output with read data. Edge-aligned with read data. Input with write data. DQS is center-aligned to write data.", B8 DQ14 (io) "Data input/output: Upper byte of bidirectional data bus for the x16 configuration. DQ[15:8] are referenced to VREFDQ.", C2 DQ11 (io) "Data input/output: Upper byte of bidirectional data bus for the x16 configuration. DQ[15:8] are referenced to VREFDQ.", C3 DQ9 (io) "Data input/output: Upper byte of bidirectional data bus for the x16 configuration. DQ[15:8] are referenced to VREFDQ.", C7 UDQS (io) "Upper byte data strobe: Output with read data. Edge-aligned with read data. Input with write data. DQS is center-aligned to write data.", C8 DQ10 (io) "Data input/output: Upper byte of bidirectional data bus for the x16 configuration. DQ[15:8] are referenced to VREFDQ.", D3 UDM (in) "Input data mask: UDM is an upper-byte, input mask signal for write data. Upperbyte input data is masked when UDM is sampled HIGH along with that input data during a WRITE access. Although the UDM ball is input-only, the UDM (See Datasheet)", D7 DQ8 (io) "Data input/output: Upper byte of bidirectional data bus for the x16 configuration. DQ[15:8] are referenced to VREFDQ.", E3 DQ0 (io) "Data input/output: Lower byte of bidirectional data bus for the x16 configuration. DQ[7:0] are referenced to VREFDQ.", E7 LDM (in) "Input data mask: LDM is a lower byte, input mask signal for write data. Lower-byte input data is masked when LDM is sampled HIGH along with the input data during a write access. Although the LDM ball is input-only, the LDM (See Datasheet)", F2 DQ2 (io) "Data input/output: Lower byte of bidirectional data bus for the x16 configuration. DQ[7:0] are referenced to VREFDQ.", F3 LDQS (io) "Lower byte data strobe: Output with read data. Edge-aligned with read data. Input with write data. Center-aligned to write data.", F7 DQ1 (io) "Data input/output: Lower byte of bidirectional data bus for the x16 configuration. DQ[7:0] are referenced to VREFDQ.", F8 DQ3 (io) "Data input/output: Lower byte of bidirectional data bus for the x16 configuration. DQ[7:0] are referenced to VREFDQ.", G2 DQ6 (io) "Data input/output: Lower byte of bidirectional data bus for the x16 configuration. DQ[7:0] are referenced to VREFDQ.", G3 LDQS# (io) "Lower byte data strobe: Output with read data. Edge-aligned with read data. Input with write data. Center-aligned to write data.", H3 DQ4 (io) "Data input/output: Lower byte of bidirectional data bus for the x16 configuration. DQ[7:0] are referenced to VREFDQ.", H7 DQ7 (io) "Data input/output: Lower byte of bidirectional data bus for the x16 configuration. DQ[7:0] are referenced to VREFDQ.", H8 DQ5 (io) "Data input/output: Lower byte of bidirectional data bus for the x16 configuration. DQ[7:0] are referenced to VREFDQ.", J3 RAS# (in) "Command input: RAS#, CAS#, and WE# (along with CS#) define the command being entered and are referenced to VREFCA.", J7 CK (in) "Clock: CK and CK# are differential clock inputs. All address and control input signals are sampled on the crossing of the positive edge of CK and the negative edge of CK#. Output data strobe (DQS, DQS#) is referenced to the (See Datasheet)", K1 ODT (in) "On-die termination: ODT enables (registered HIGH) and disables (registered LOW) termination resistance internal to the DDR3 SDRAM. When enabled in normal operation, ODT is only applied to each of the following balls: (See Datasheet)", K3 CAS# (in) "Command input: RAS#, CAS#, and WE# (along with CS#) define the command being entered and are referenced to VREFCA.", K7 CK# (in) "Clock: CK and CK# are differential clock inputs. All address and control input signals are sampled on the crossing of the positive edge of CK and the negative edge of CK#. Output data strobe (DQS, DQS#) is referenced to the (See Datasheet)", K9 CKE (in) "Clock enable: CKE enables (registered HIGH) and disables (registered LOW) internal circuitry and clocks on the DRAM. The specific circuitry that is enabled/disabled is dependent upon the DDR3 SDRAM configuration and (See Datasheet)", L2 CS# (in) "Chip select: CS# enables (registered LOW) and disables (registered HIGH) the command decoder. All commands are masked when CS# is registered HIGH. CS# provides for external rank selection on systems with multiple ranks. CS# (See Datasheet)", L3 WE# (in) "Command input: RAS#, CAS#, and WE# (along with CS#) define the command being entered and are referenced to VREFCA.", L7 A10/AP (in) "Address input: Provide the row address for ACTIVATE commands, and the column address and auto precharge bit (A10) for READ/WRITE commands, to select one location out of the memory array in the respective bank. A10 sampled (See Datasheet)", L8 ZQ (in) "External reference ball for output drive calibration: This ball is tied to an external 240ohm resistor (RZQ), which is tied to VSSQ.", M2 BA0 (in) "Bank address input: BA[2:0] define to which bank an ACTIVATE, READ, WRITE, or PRECHARGE command is being applied. BA[2:0] define which mode register (MR0, MR1, MR2, or MR3) is loaded during the LOAD MODE command. BA[2:0] are (See Datasheet)", M3 BA2 (in) "Bank address input: BA[2:0] define to which bank an ACTIVATE, READ, WRITE, or PRECHARGE command is being applied. BA[2:0] define which mode register (MR0, MR1, MR2, or MR3) is loaded during the LOAD MODE command. BA[2:0] are (See Datasheet)", N2 A3 (in) "Address input: Provide the row address for ACTIVATE commands, and the column address and auto precharge bit (A10) for READ/WRITE commands, to select one location out of the memory array in the respective bank. A10 sampled (See Datasheet)", N3 A0 (in) "Address input: Provide the row address for ACTIVATE commands, and the column address and auto precharge bit (A10) for READ/WRITE commands, to select one location out of the memory array in the respective bank. A10 sampled (See Datasheet)", N7 A12/BC# (in) "Address input: Provide the row address for ACTIVATE commands, and the column address and auto precharge bit (A10) for READ/WRITE commands, to select one location out of the memory array in the respective bank. A10 sampled (See Datasheet)", N8 BA1 (in) "Address input: Provide the row address for ACTIVATE commands, and the column address and auto precharge bit (A10) for READ/WRITE commands, to select one location out of the memory array in the respective bank. A10 sampled (See Datasheet)", P2 A5 (in) "Address input: Provide the row address for ACTIVATE commands, and the column address and auto precharge bit (A10) for READ/WRITE commands, to select one location out of the memory array in the respective bank. A10 sampled (See Datasheet)", P3 A2 (in) "Address input: Provide the row address for ACTIVATE commands, and the column address and auto precharge bit (A10) for READ/WRITE commands, to select one location out of the memory array in the respective bank. A10 sampled (See Datasheet)", P7 A1 (in) "Address input: Provide the row address for ACTIVATE commands, and the column address and auto precharge bit (A10) for READ/WRITE commands, to select one location out of the memory array in the respective bank. A10 sampled (See Datasheet)", P8 A4 (in) "Address input: Provide the row address for ACTIVATE commands, and the column address and auto precharge bit (A10) for READ/WRITE commands, to select one location out of the memory array in the respective bank. A10 sampled (See Datasheet)", R2 A7 (in) "Address input: Provide the row address for ACTIVATE commands, and the column address and auto precharge bit (A10) for READ/WRITE commands, to select one location out of the memory array in the respective bank. A10 sampled (See Datasheet)", R3 A9 (in) "Address input: Provide the row address for ACTIVATE commands, and the column address and auto precharge bit (A10) for READ/WRITE commands, to select one location out of the memory array in the respective bank. A10 sampled (See Datasheet)", R7 A11 (in) "Address input: Provide the row address for ACTIVATE commands, and the column address and auto precharge bit (A10) for READ/WRITE commands, to select one location out of the memory array in the respective bank. A10 sampled (See Datasheet)", R8 A6 (in) "Address input: Provide the row address for ACTIVATE commands, and the column address and auto precharge bit (A10) for READ/WRITE commands, to select one location out of the memory array in the respective bank. A10 sampled (See Datasheet)", T2 RESET# (in) "Reset: RESET# is an active LOW CMOS input referenced to VSS. The RESET# input receiver is a CMOS input defined as a rail-to-rail signal with DC HIGH >= 0.8 x VDD and DC LOW =< 0.2 x VDDQ. RESET# assertion and de-assertion (See Datasheet)", T8 A8 (in) "Address input: Provide the row address for ACTIVATE commands, and the column address and auto precharge bit (A10) for READ/WRITE commands, to select one location out of the memory array in the respective bank. A10 sampled (See Datasheet)"
part B pins: A1 VDDQ (power) "DQ power supply: 1.35V, 1.2825V to 1.45V.", A8 VDDQ (power) "DQ power supply: 1.35V, 1.2825V to 1.45V.", A9 VSS (power) "Ground.", B1 VSSQ (power) "DQ ground: Isolated on the device for improved noise immunity.", B2 VDD (power) "Power supply: 1.35V, 1.2825V to 1.45V.", B3 VSS (power) "Ground.", B9 VSSQ (power) "DQ ground: Isolated on the device for improved noise immunity.", C1 VDDQ (power) "DQ power supply: 1.35V, 1.2825V to 1.45V.", C9 VDDQ (power) "DQ power supply: 1.35V, 1.2825V to 1.45V.", D1 VSSQ (power) "DQ ground: Isolated on the device for improved noise immunity.", D2 VDDQ (power) "DQ power supply: 1.35V, 1.2825V to 1.45V.", D8 VSSQ (power) "DQ ground: Isolated on the device for improved noise immunity.", D9 VDD (power) "Power supply: 1.35V, 1.2825V to 1.45V.", E1 VSS (power) "Ground.", E2 VSSQ (power) "DQ ground: Isolated on the device for improved noise immunity.", E8 VSSQ (power) "DQ ground: Isolated on the device for improved noise immunity.", E9 VDDQ (power) "DQ power supply: 1.35V, 1.2825V to 1.45V.", F1 VDDQ (power) "DQ power supply: 1.35V, 1.2825V to 1.45V.", F9 VSSQ (power) "DQ ground: Isolated on the device for improved noise immunity.", G1 VSSQ (power) "DQ ground: Isolated on the device for improved noise immunity.", G7 VDD (power) "Power supply: 1.35V, 1.2825V to 1.45V.", G8 VSS (power) "Ground.", G9 VSSQ (power) "DQ ground: Isolated on the device for improved noise immunity.", H1 VREFDQ (in) "Reference voltage for data: VREFDQ must be maintained at all times (excluding self refresh) for proper device operation.", H2 VDDQ (power) "DQ power supply: 1.35V, 1.2825V to 1.45V.", H9 VDDQ (power) "DQ power supply: 1.35V, 1.2825V to 1.45V.", J2 VSS (power) "Ground.", J8 VSS (power) "Ground.", K2 VDD (power) "Power supply: 1.35V, 1.2825V to 1.45V.", K8 VDD (power) "Power supply: 1.35V, 1.2825V to 1.45V.", M1 VSS (power) "Ground.", M8 VREFCA (in) "Reference voltage for control, command, and address: VREFCA must be maintained at all times (including self refresh) for proper device operation.", M9 VSS (power) "Ground.", N1 VDD (power) "Power supply: 1.35V, 1.2825V to 1.45V.", N9 VDD (power) "Power supply: 1.35V, 1.2825V to 1.45V.", P1 VSS (power) "Ground.", P9 VSS (power) "Ground.", R1 VDD (power) "Power supply: 1.35V, 1.2825V to 1.45V.", R9 VDD (power) "Power supply: 1.35V, 1.2825V to 1.45V.", T1 VSS (power) "Ground.", T9 VSS (power) "Ground."
part C pins: J1 NC "No connect: These balls should be left unconnected (the ball has no connection to the DRAM or to other balls).", J9 NC "No connect: These balls should be left unconnected (the ball has no connection to the DRAM or to other balls).", L1 NC "No connect: These balls should be left unconnected (the ball has no connection to the DRAM or to other balls).", L9 NC "No connect: These balls should be left unconnected (the ball has no connection to the DRAM or to other balls).", M7 NC "No connect: These balls should be left unconnected (the ball has no connection to the DRAM or to other balls).", T3 NC "No connect: These balls should be left unconnected (the ball has no connection to the DRAM or to other balls).", T7 NC "No connect: These balls should be left unconnected (the ball has no connection to the DRAM or to other balls)."

## IC DIGIPOT QUAD MCP4432T-503E
designator U?, comment MCP4432T-503E
Manufacturer: Microchip; Manufacturer Part Number: MCP4432T-503E/ST; Supplier 1: Mouser; Supplier Part Number 1: 579-MCP4432T-503E/ST
footprint MC_TSSOP14 (TSOP, 14-Leads, Body 5.00x4.40mm, Pitch 0.65mm, IPC Medium Density)
pins: 1 P3W, 2 P3B, 3 HVC/A0, 4 SCL, 5 SDA, 6 VSS (power), 7 P1B, 8 P1W, 9 P0W, 10 P0B, 11 A1, 12 VDD (power), 13 P2B, 14 P2W

## IC FLASH MX25U6432FZNI02
designator U?, comment MX25U6432FZNI02
Manufacturer: Macronix; Supplier 1: Digi-Key; Supplier Part Number 1: 1092-MX25U6432FZNI02-ND; House Part Number: MX25U6432FZNI02; Manufacturer Part Number: MX25U6432FZNI02
footprint MX_WSON8 (SON, 8-Leads, Body 5.00x6.00mm, Pitch 1.27mm, Thermal Pad 4.00x3.40mm, IPC Medium Density)
pins: 1 CS#, 2 SO/SIO1, 3 WP#/SIO2, 4 GND, 5 SI/SIO0, 6 SCLK, 7 RST#/SIO3, 8 VCC, 9 PAD

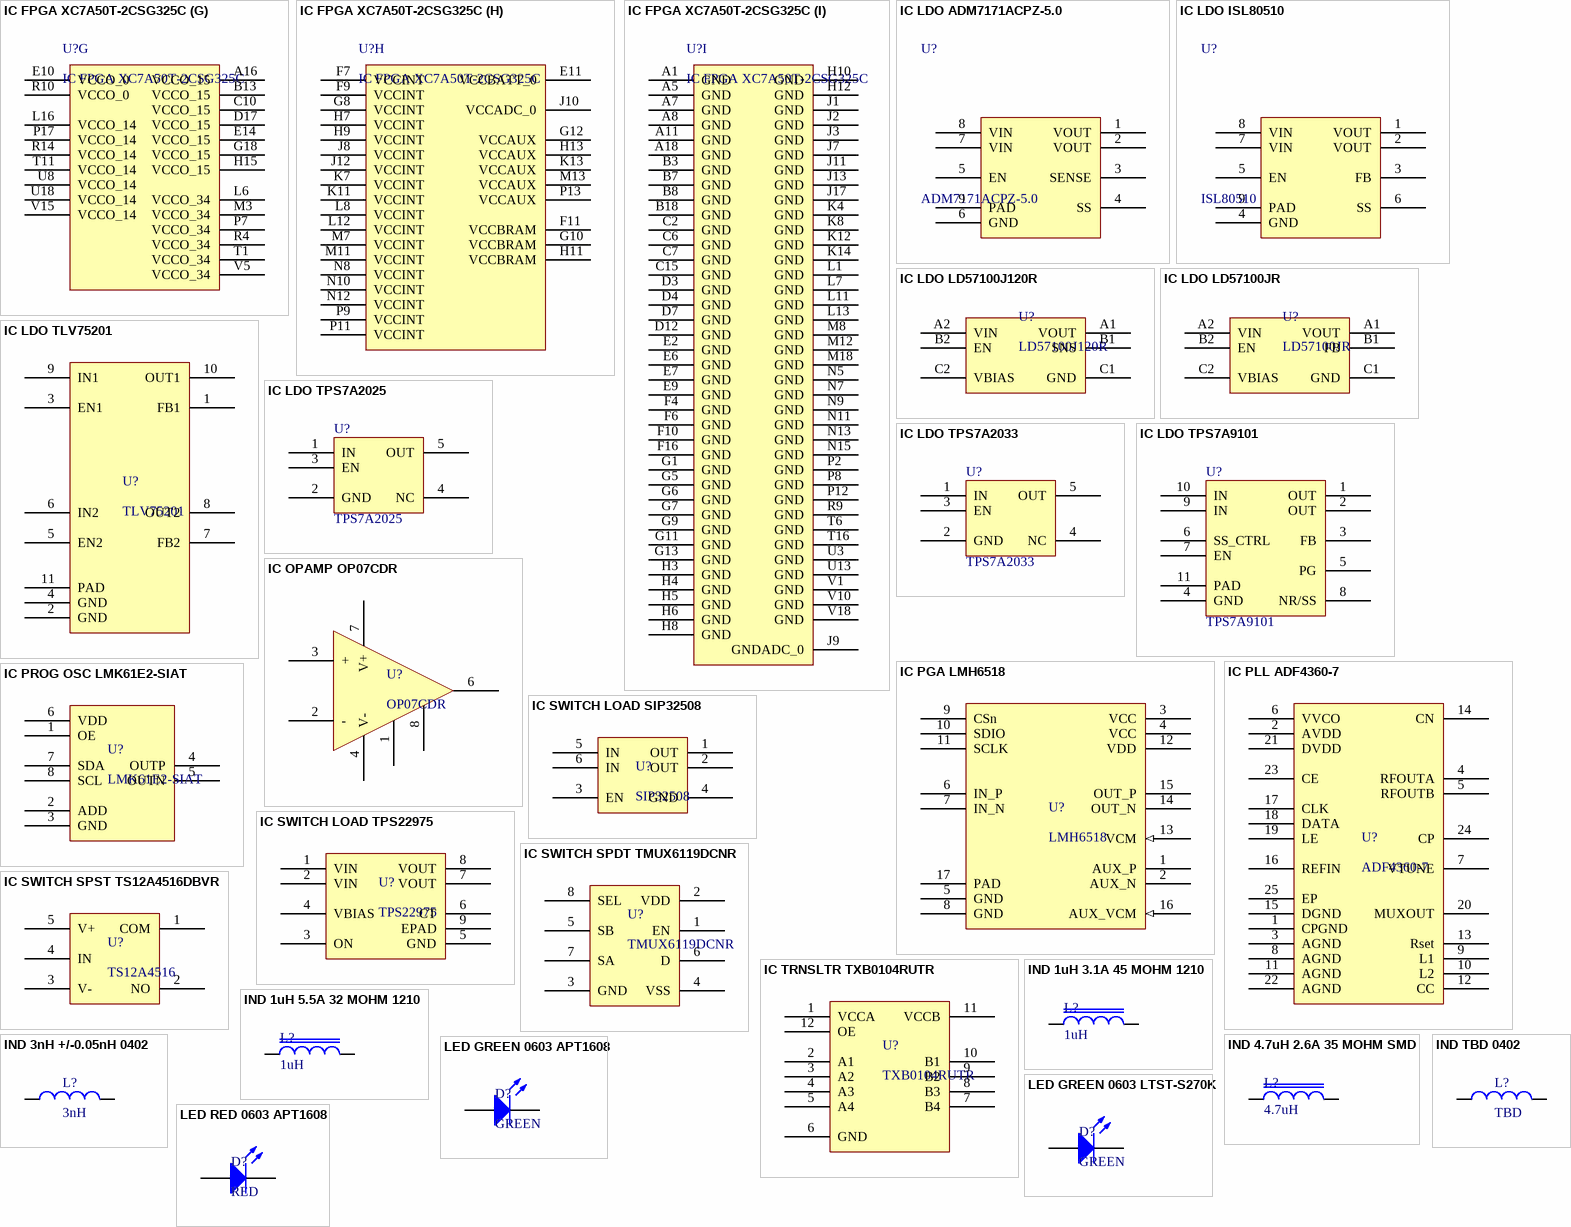
[diagram p4: symbols IC FPGA XC7A50T-2CSG325C to LED RED 0603 APT1608]

## IC FPGA XC7A50T-2CSG325C
designator U?
Artix-7 FPGA, 150 User I/Os, 4 GTP, 324-Ball BGA, Speed Grade 2, Commercial Grade, Pb-Free; Manufacturer: Xilinx; House Part Number: XC7A50T-2CSG325C; Supplier 1: Digi-Key; Supplier Part Number 1: 122-2193-ND; Manufacturer Part Number: XC7A50T-2CSG325C
footprint XILINX_XC7A50T-2CSG325C (BGA, 324-Balls, Body 15x15mm, Pitch 0.8mm)
part A pins: J14 IO_L5P_T0_D06_14 (io), J15 IO_L2P_T0_D02_14 (io), J16 IO_L2N_T0_D03_14 (io), J18 IO_L3P_T0_DQS_PUDC_B_14 (io), K15 IO_L5N_T0_D07_14 (io), K16 IO_L1P_T0_D00_MOSI_14 (io), K17 IO_L4P_T0_D04_14 (io), K18 IO_L3N_T0_DQS_EMCCLK_14 (io), L14 IO_0_14 (io), L15 IO_L6P_T0_FCS_B_14 (io), L17 IO_L1N_T0_D01_DIN_14 (io), L18 IO_L4N_T0_D05_14 (io), M14 IO_L8P_T1_D11_14 (io), M15 IO_L6N_T0_D08_VREF_14 (io), M16 IO_L7P_T1_D09_14 (io), M17 IO_L7N_T1_D10_14 (io), N14 IO_L8N_T1_D12_14 (io), N16 IO_L9P_T1_DQS_14 (io), N17 IO_L9N_T1_DQS_D13_14 (io), N18 IO_L10P_T1_D14_14 (io), P14 IO_L12P_T1_MRCC_14 (io), P15 IO_L11P_T1_SRCC_14 (io), P16 IO_L11N_T1_SRCC_14 (io), P18 IO_L10N_T1_D15_14 (io), R13 IO_L19P_T3_A10_D26_14 (io), R15 IO_L12N_T1_MRCC_14 (io), R16 IO_L14P_T2_SRCC_14 (io), R17 IO_L14N_T2_SRCC_14 (io), R18 IO_L15P_T2_DQS_RDWR_B_14 (io), T12 IO_L22P_T3_A05_D21_14 (io), T13 IO_L19N_T3_A09_D25_VREF_14 (io), T14 IO_L13P_T2_MRCC_14 (io), T15 IO_L13N_T2_MRCC_14 (io), T17 IO_L16P_T2_CSI_B_14 (io), T18 IO_L15N_T2_DQS_DOUT_CSO_B_14 (io), U9 IO_L24P_T3_A01_D17_14 (io), U10 IO_25_14 (io), U11 IO_L23P_T3_A03_D19_14 (io), U12 IO_L22N_T3_A04_D20_14 (io), U14 IO_L20P_T3_A08_D24_14 (io), U15 IO_L17P_T2_A14_D30_14 (io), U16 IO_L17N_T2_A13_D29_14 (io), U17 IO_L16N_T2_A15_D31_14 (io), V9 IO_L24N_T3_A00_D16_14 (io), V11 IO_L23N_T3_A02_D18_14 (io), V12 IO_L21P_T3_DQS_14 (io), V13 IO_L21N_T3_DQS_A06_D22_14 (io), V14 IO_L20N_T3_A07_D23_14 (io), V16 IO_L18P_T2_A12_D28_14 (io), V17 IO_L18N_T2_A11_D27_14 (io)
part B pins: A9 IO_L3N_T0_DQS_AD1N_15 (io), A10 IO_L5N_T0_AD9N_15 (io), A12 IO_L7N_T1_AD2N_15 (io), A13 IO_L8P_T1_AD10P_15 (io), A14 IO_L8N_T1_AD10N_15 (io), A15 IO_L10N_T1_AD11N_15 (io), A17 IO_L15N_T2_DQS_ADV_B_15 (io), B9 IO_L3P_T0_DQS_AD1P_15 (io), B10 IO_L5P_T0_AD9P_15 (io), B11 IO_L4N_T0_15 (io), B12 IO_L7P_T1_AD2P_15 (io), B14 IO_L10P_T1_AD11P_15 (io), B15 IO_L9N_T1_DQS_AD3N_15 (io), B16 IO_L15P_T2_DQS_15 (io), B17 IO_L16N_T2_A27_15 (io), C8 IO_L1N_T0_AD0N_15 (io), C9 IO_L2N_T0_AD8N_15 (io), C11 IO_L4P_T0_15 (io), C12 IO_L6N_T0_VREF_15 (io), C13 IO_L11N_T1_SRCC_15 (io), C14 IO_L9P_T1_DQS_AD3P_15 (io), C16 IO_L16P_T2_A28_15 (io), C17 IO_L18P_T2_A24_15 (io), C18 IO_L18N_T2_A23_15 (io), D8 IO_L1P_T0_AD0P_15 (io), D9 IO_L2P_T0_AD8P_15 (io), D10 IO_0_15 (io), D11 IO_L6P_T0_15 (io), D13 IO_L11P_T1_SRCC_15 (io), D14 IO_L12N_T1_MRCC_15 (io), D15 IO_L13N_T2_MRCC_15 (io), D16 IO_L14N_T2_SRCC_15 (io), D18 IO_L17N_T2_A25_15 (io), E13 IO_L12P_T1_MRCC_15 (io), E15 IO_L13P_T2_MRCC_15 (io), E16 IO_L14P_T2_SRCC_15 (io), E17 IO_L17P_T2_A26_15 (io), E18 IO_L24N_T3_RS0_15 (io), F14 IO_L22N_T3_A16_15 (io), F15 IO_L21N_T3_DQS_A18_15 (io), F17 IO_L24P_T3_RS1_15 (io), F18 IO_L19N_T3_A21_VREF_15 (io), G14 IO_L22P_T3_A17_15 (io), G15 IO_L21P_T3_DQS_15 (io), G16 IO_L20N_T3_A19_15 (io), G17 IO_L19P_T3_A22_15 (io), H14 IO_25_15 (io), H16 IO_L20P_T3_A20_15 (io), H17 IO_L23P_T3_FOE_B_15 (io), H18 IO_L23N_T3_FWE_B_15 (io)
part C pins: J4 IO_L2N_T0_34 (io), J5 IO_L2P_T0_34 (io), J6 IO_0_34 (io), K1 IO_L3N_T0_DQS_34 (io), K2 IO_L3P_T0_DQS_34 (io), K3 IO_L4P_T0_34 (io), K5 IO_L1N_T0_34 (io), K6 IO_L1P_T0_34 (io), L2 IO_L4N_T0_34 (io), L3 IO_L5N_T0_34 (io), L4 IO_L5P_T0_34 (io), L5 IO_L6P_T0_34 (io), M1 IO_L7N_T1_34 (io), M2 IO_L7P_T1_34 (io), M4 IO_L10P_T1_34 (io), M5 IO_L6N_T0_VREF_34 (io), M6 IO_L8P_T1_34 (io), N1 IO_L9P_T1_DQS_34 (io), N2 IO_L11N_T1_SRCC_34 (io), N3 IO_L11P_T1_SRCC_34 (io), N4 IO_L10N_T1_34 (io), N6 IO_L8N_T1_34 (io), P1 IO_L9N_T1_DQS_34 (io), P3 IO_L12N_T1_MRCC_34 (io), P4 IO_L12P_T1_MRCC_34 (io), P5 IO_L19N_T3_VREF_34 (io), P6 IO_L19P_T3_34 (io), R1 IO_L13N_T2_MRCC_34 (io), R2 IO_L13P_T2_MRCC_34 (io), R3 IO_L14P_T2_SRCC_34 (io), R5 IO_L21P_T3_DQS_34 (io), R6 IO_25_34 (io), R7 IO_L22P_T3_34 (io), T2 IO_L14N_T2_SRCC_34 (io), T3 IO_L17N_T2_34 (io), T4 IO_L17P_T2_34 (io), T5 IO_L21N_T3_DQS_34 (io), T7 IO_L22N_T3_34 (io), U1 IO_L15N_T2_DQS_34 (io), U2 IO_L15P_T2_DQS_34 (io), U4 IO_L18P_T2_34 (io), U5 IO_L20N_T3_34 (io), U6 IO_L20P_T3_34 (io), U7 IO_L23P_T3_34 (io), V2 IO_L16N_T2_34 (io), V3 IO_L16P_T2_34 (io), V4 IO_L18N_T2_34 (io), V6 IO_L23N_T3_34 (io), V7 IO_L24N_T3_34 (io), V8 IO_L24P_T3_34 (io)
part D pins: E8 CCLK_0 (io), E12 CFGBVS_0 (in), F8 TCK_0 (in), F12 DONE_0 (io), F13 M2_0 (in), K9 VREFN_0 (in), K10 VP_0 (in), L9 VN_0 (in), L10 VREFP_0 (in), M9 DXN_0 (in), M10 DXP_0 (in), P10 PROGRAM_B_0 (in), R8 TMS_0 (in), R11 M1_0 (in), R12 M0_0 (in), T8 TDO_0 (out), T9 TDI_0 (in), T10 INIT_B_0 (io)
part E pins: A3 MGTPRXN1_216 (in), A4 MGTPRXP1_216 (in), A6 MGTRREF_216 (in), B1 MGTPTXN3_216 (out), B2 MGTPTXP3_216 (out), B5 MGTREFCLK1N_216 (in), B6 MGTREFCLK1P_216 (in), C3 MGTPRXN2_216 (in), C4 MGTPRXP2_216 (in), D1 MGTPTXN2_216 (out), D2 MGTPTXP2_216 (out), D5 MGTREFCLK0N_216 (in), D6 MGTREFCLK0P_216 (in), E3 MGTPRXN0_216 (in), E4 MGTPRXP0_216 (in), F1 MGTPTXN1_216 (out), F2 MGTPTXP1_216 (out), G3 MGTPRXN3_216 (in), G4 MGTPRXP3_216 (in), H1 MGTPTXN0_216 (out), H2 MGTPTXP0_216 (out)
part F pins: A2 MGTAVTT (power), B4 MGTAVCC (power), C1 MGTAVTT (power), C5 MGTAVCC (power), E1 MGTAVTT (power), E5 MGTAVCC (power), F3 MGTAVTT (power), F5 MGTAVCC (power), G2 MGTAVTT (power)
part G pins: A16 VCCO_15 (power), B13 VCCO_15 (power), C10 VCCO_15 (power), D17 VCCO_15 (power), E10 VCCO_0 (power), E14 VCCO_15 (power), G18 VCCO_15 (power), H15 VCCO_15 (power), L6 VCCO_34 (power), L16 VCCO_14 (power), M3 VCCO_34 (power), P7 VCCO_34 (power), P17 VCCO_14 (power), R4 VCCO_34 (power), R10 VCCO_0 (power), R14 VCCO_14 (power), T1 VCCO_34 (power), T11 VCCO_14 (power), U8 VCCO_14 (power), U18 VCCO_14 (power), V5 VCCO_34 (power), V15 VCCO_14 (power)
part H pins: E11 VCCBATT_0 (power), F7 VCCINT (power), F9 VCCINT (power), F11 VCCBRAM (power), G8 VCCINT (power), G10 VCCBRAM (power), G12 VCCAUX (power), H7 VCCINT (power), H9 VCCINT (power), H11 VCCBRAM (power), H13 VCCAUX (power), J8 VCCINT (power), J10 VCCADC_0 (power), J12 VCCINT (power), K7 VCCINT (power), K11 VCCINT (power), K13 VCCAUX (power), L8 VCCINT (power), L12 VCCINT (power), M7 VCCINT (power), M11 VCCINT (power), M13 VCCAUX (power), N8 VCCINT (power), N10 VCCINT (power), N12 VCCINT (power), P9 VCCINT (power), P11 VCCINT (power), P13 VCCAUX (power)
part I pins: A1 GND (power), A5 GND (power), A7 GND (power), A8 GND (power), A11 GND (power), A18 GND (power), B3 GND (power), B7 GND (power), B8 GND (power), B18 GND (power), C2 GND (power), C6 GND (power), C7 GND (power), C15 GND (power), D3 GND (power), D4 GND (power), D7 GND (power), D12 GND (power), E2 GND (power), E6 GND (power), E7 GND (power), E9 GND (power), F4 GND (power), F6 GND (power), F10 GND (power), F16 GND (power), G1 GND (power), G5 GND (power), G6 GND (power), G7 GND (power), G9 GND (power), G11 GND (power), G13 GND (power), H3 GND (power), H4 GND (power), H5 GND (power), H6 GND (power), H8 GND (power), H10 GND (power), H12 GND (power), J1 GND (power), J2 GND (power), J3 GND (power), J7 GND (power), J9 GNDADC_0 (power), J11 GND (power), J13 GND (power), J17 GND (power), K4 GND (power), K8 GND (power), K12 GND (power), K14 GND (power), L1 GND (power), L7 GND (power), L11 GND (power), L13 GND (power), M8 GND (power), M12 GND (power), M18 GND (power), N5 GND (power), N7 GND (power), N9 GND (power), N11 GND (power), N13 GND (power), N15 GND (power), P2 GND (power), P8 GND (power), P12 GND (power), R9 GND (power), T6 GND (power), T16 GND (power), U3 GND (power), U13 GND (power), V1 GND (power), V10 GND (power), V18 GND (power)
part A text: BANK 14
part B text: BANK 15
part C text: BANK 34